# EAGLE library part DIP-BLACK-FEMALE-HEADER(2X12P-2.54) (library Seeed-OPL-Connector)
320030112
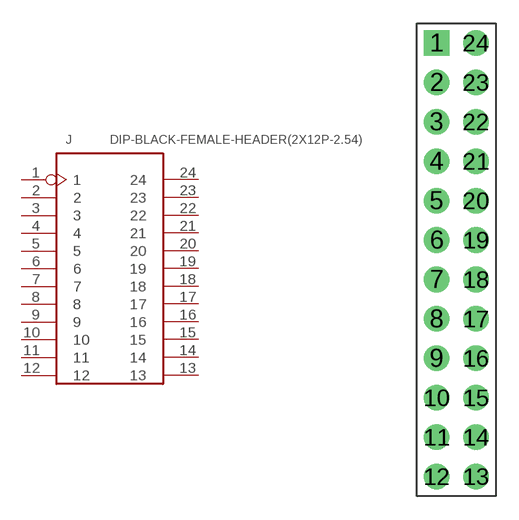
[diagram p134: symbol with the pads of H2X12-2.54; footprint H2X12-2.54]

Designator prefix J

## DIP-BLACK-FEMALE-HEADER(2X12P-2.54) (MPN: F185-1224A0BSYA1; VALUE: 2x12p-2.54)  [H2X12-2.54]
1  1
2  2
3  3
4  4
5  5
6  6
7  7
8  8
9  9
10  10
11  11
12  12
13  13
14  14
15  15
16  16
17  17
18  18
19  19
20  20
21  21
22  22
23  23
24  24

## Footprint H2X12-2.54 (pad centres in mm)
drill 0.889 pad 1.651 square: 1 -1.27,13.97
drill 0.889 pad 1.651: 2 -1.27,11.43; 3 -1.27,8.89; 4 -1.27,6.35; 5 -1.27,3.81; 6 -1.27,1.27; 7 -1.27,-1.27; 8 -1.27,-3.81; 9 -1.27,-6.35; 10 -1.27,-8.89; 11 -1.27,-11.43; 12 -1.27,-13.97; 13 1.27,-13.97; 14 1.27,-11.43; 15 1.27,-8.89; 16 1.27,-6.35; 17 1.27,-3.81; 18 1.27,-1.27; 19 1.27,1.27; 20 1.27,3.81; 21 1.27,6.35; 22 1.27,8.89; 23 1.27,11.43; 24 1.27,13.97